# EAGLE library part 52559-2090 (library con-molex)
FPC ZIF, 0.5 MM
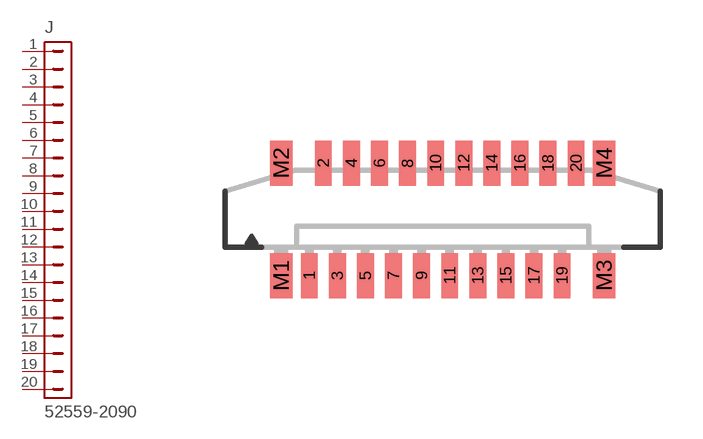
[diagram p77: symbol with the pads of 52559-2090; footprint 52559-2090]

Designator prefix J

## 52559-2090  [52559-2090]
1  1  pas
2  2  pas
3  3  pas
4  4  pas
5  5  pas
6  6  pas
7  7  pas
8  8  pas
9  9  pas
10  10  pas
11  11  pas
12  12  pas
13  13  pas
14  14  pas
15  15  pas
16  16  pas
17  17  pas
18  18  pas
19  19  pas
20  20  pas

## Footprint 52559-2090 (pad centres in mm)
FPC ZIF, 20 pins, pitch 0.5 MM
smd 0.6 x 1.6: 1 -4.75,-2; 2 -4.25,2; 3 -3.75,-2; 4 -3.25,2; 5 -2.75,-2; 6 -2.25,2; 7 -1.75,-2; 8 -1.25,2; 9 -0.75,-2; 10 -0.25,2; 11 0.25,-2; 12 0.75,2; 13 1.25,-2; 14 1.75,2; 15 2.25,-2; 16 2.75,2; 17 3.25,-2; 18 3.75,2; 19 4.25,-2; 20 4.75,2
smd 0.8 x 1.6: M1 -5.75,-2; M2 -5.75,2; M3 5.75,-2; M4 5.75,2